# EAGLE library part W25Q16JVZPIQ (library MF_IC_Digital)
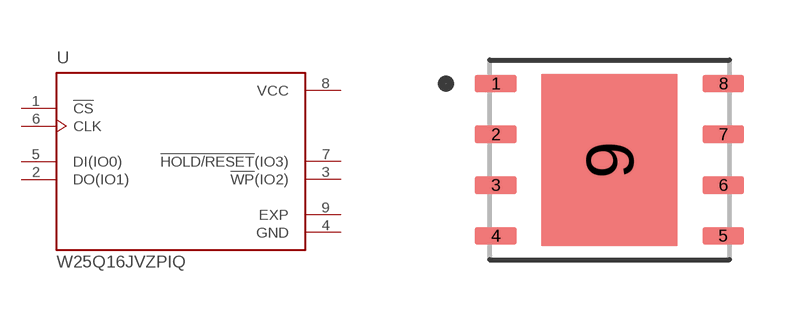
[diagram p21: symbol with the pads of SON127P500X600X80-9N; footprint SON127P500X600X80-9N]

Designator prefix U

## W25Q16JVZPIQ (AVAILABILITY: Unavailable; DESCRIPTION: FLASH - NOR Memory IC 16Mb (2M x 8) SPI - Quad I/O 133MHz 8-WSON (6x5); DIGIKEY-PURCHASE-URL: https://snapeda.com/shop?store=DigiKey&id=618097; MF: Winbond Electronics; MP: W25Q16JVZPIQ; PACKAGE: WSON-8 Winbond; PRICE: None)  [SON127P500X600X80-9N]
1  !CS  in
2  DO(IO1)
3  !WP!(IO2)
4  GND  pwr
5  DI(IO0)
6  CLK  in
7  !HOLD/RESET!(IO3)
8  VCC  pwr
9  EXP  pas

## Footprint SON127P500X600X80-9N (pad centres in mm)
smd 1.04 x 0.44: 1 -2.845,1.905; 2 -2.845,0.635; 3 -2.845,-0.635; 4 -2.845,-1.905; 5 2.845,-1.905; 6 2.845,-0.635; 7 2.845,0.635; 8 2.845,1.905
smd 3.4 x 4.3: 9 0,0